# Altium schematic symbol library DIODE_ZENER-SOD323.SchLib: 1 symbol
Pins are listed as number, name and electrical type; pins without a type are passive.

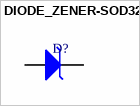
[diagram p0: symbol DIODE_ZENER-SOD323]

## DIODE_ZENER-SOD323
designator D?  (value not drawn)
pins: A, K